# EAGLE library part LTC1044 (library FHD-POWER)
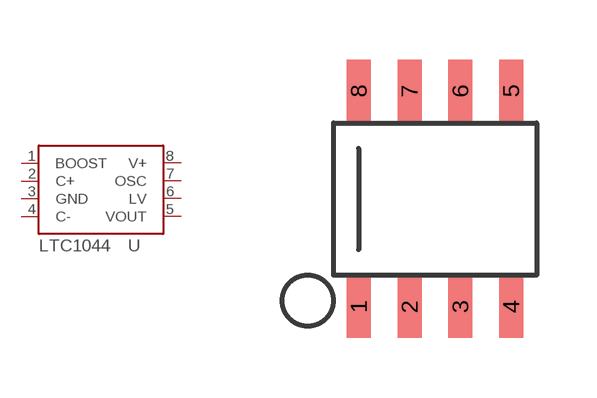
[diagram p5: symbol with the pads of SO-8; footprint SO-8]

Designator prefix -

## LTC1044  [SO-8]
1  BOOST
2  C+
3  GND
4  C-
5  VOUT
6  LV
7  OSC
8  V+

## Footprint SO-8 (pad centres in mm)
smd 0.6 x 1.55: 1 -1.905,-2.69; 2 -0.635,-2.69; 3 0.635,-2.69; 4 1.905,-2.69; 5 1.905,2.71; 6 0.635,2.71; 7 -0.635,2.71; 8 -1.905,2.71